# Altium footprint library 2021-03-30_18-53-43.PcbLib: 1 footprints
Each footprint in its own frame and in the unit in brackets; x right, y up, seen from the top. Pads: shape width x height; smd on the part's side, far side on the other; paste and mask are expansions set on the pad; w line width, h text height; cw(c..) or ccw(c..) is an arc to the next point about the centre after c.
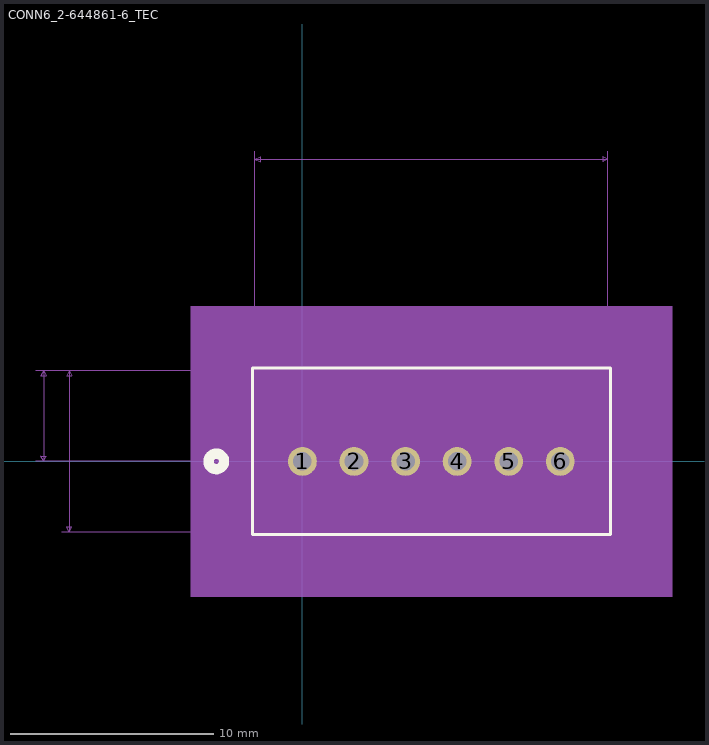
[diagram p0: the footprint, top view; thin cyan lines are the x and y axes]

## CONN6_2-644861-6_TEC [mil]
pads (6):
  round 56 hole 36 mask+0: 1(0,0) 2(100,0) 3(200,0) 4(300,0) 5(400,0) 6(500,0)
Top Overlay:
  circle w20: c-167,0 r15
  lines w6: -97,-142 597,-142 597,181 -97,181 -97,-142
Bottom Overlay:
  circle w20: c-167,0 r15
Mechanical 5:
  region: -217,301 717,301 717,-262 -217,-262
Mechanical 7:
  lines w1: -517,0 250,0 ; -517,176 -92,176 ; -467,-137 -92,-137 ; -467,176 -92,176 ; -92,601 -92,176 ; -50,261 0,261 ; 0,276 0,0 ; 100,0 100,276 ; 150,261 100,261 ; 592,176 592,601 ; 692,-50 692,0 ; 692,50 692,0 ; -502,0 -502,176 ; -502,0 -507,10 -497,10 -502,0 ; -502,176 -507,166 -497,166 -502,176 ; -452,-137 -452,176 ; -452,-137 -457,-127 -447,-127 -452,-137 ; -452,176 -457,166 -447,166 -452,176 ; -92,586 592,586 ; -92,586 -82,591 -82,581 -92,586 ; 0,0 707,0 0,0 ; 0,261 -10,266 -10,256 0,261 ; 100,261 110,266 110,256 100,261 ; 592,586 582,591 582,581 592,586 ; 692,0 687,10 697,10 692,0 ; 692,0 687,-10 697,-10 692,0
  text "Default Padstyle: EX56Y56D36P" at -112.5,-297 h50
  text "1st Mtg Padstyle: RX110Y80D50P" at -125,-372 h50
  text "2nd Mtg Padstyle: EX70Y70D70P" at -112.5,-447 h50
  text "3rd Mtg Padstyle: EX70Y70D70P" at -112.5,-522 h50
  text "Left Mtg Padstyle: EX60Y60D30P" at -125,-597 h50
  text "Right Mtg Padstyle: EX60Y60D30P" at -137.5,-672 h50
  text "Alt Padstyle 1: OX60Y90D30P" at -87.5,-747 h50
  text "Alt Padstyle 2: OX90Y60D30P" at -87.5,-822 h50
  text "0.1in/2.54mm" at 0,281 h25
  text "0.684in/17.374mm" at 150,606 h25
  text "0in/0mm" at 712,-12.5 h25
  text "0.176in/4.47mm" at -697,75.5 h25
  text "0.313in/7.95mm" at -647,7 h25
Mechanical 13:
  circle w20: c0,75 r15
  lines w1: -92,-137 592,-137 592,176 -92,176 -92,-137
Mechanical 15:
  region: 602,186 -102,186 -102,-147 602,-147
  lines w6: -102,-147 -102,186 602,186 602,-147 -102,-147
3D body: height 10, standoff 0, extent 0,0 10,10